# EAGLE library part SWITCH-DIP-DPDT (library TrackerBase2)
SWITCH ROCKER DIP DPDT 150MA 30V Grayhill Inc. 76SD01T $3.84 Dip Switch DPDT 1 Position Through Hole Rocker Actuator 150mA 30VDC https://www.digikey.com/product-detail/en/grayhill-inc/76SD01T/GH7719-ND/2680736
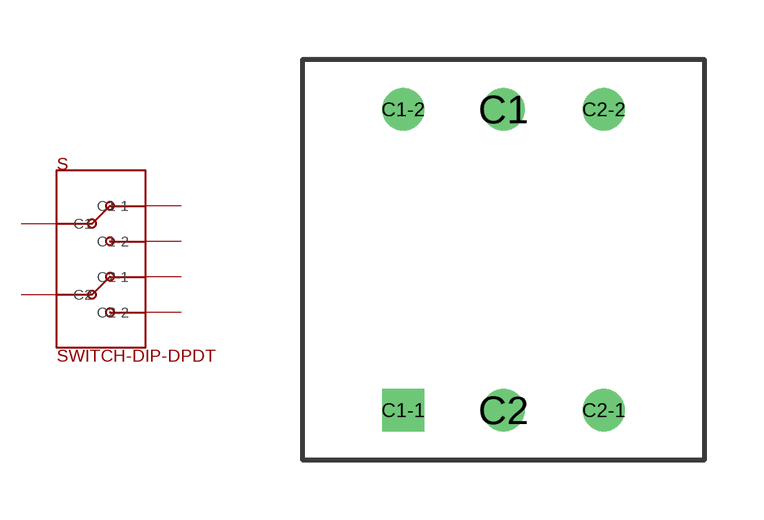
[diagram p4: symbol with the pads of SWITCH-DIP-DPDT; footprint SWITCH-DIP-DPDT]

Designator prefix S

## SWITCH-DIP-DPDT  [SWITCH-DIP-DPDT]
C1  C1  pas
C1-1  C1-1  pas
C1-2  C1-2  pas
C2  C2  pas
C2-1  C2-1  pas
C2-2  C2-2  pas

## Footprint SWITCH-DIP-DPDT (pad centres in mm)
drill 0.559: C1 0,5.08; C1-2 -2.54,5.08; C2 0,-2.54; C2-1 2.54,-2.54; C2-2 2.54,5.08
drill 0.559 square: C1-1 -2.54,-2.54